# Altium footprint library Jack_footprint.PcbLib: 1 footprints
Each footprint in its own frame and in the unit in brackets; x right, y up, seen from the top. Pads: shape width x height; smd on the part's side, far side on the other; paste and mask are expansions set on the pad; w line width, h text height; cw(c..) or ccw(c..) is an arc to the next point about the centre after c.
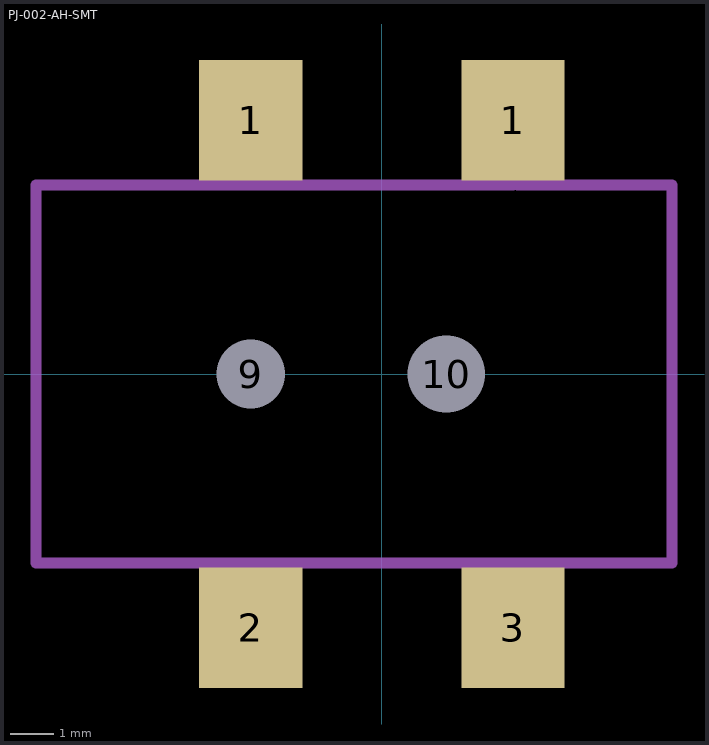
[diagram p0: the footprint, top view; thin cyan lines are the x and y axes]

## PJ-002-AH-SMT [mm]
pads (6):
  rect 2.4x2.8 smd: 1(-3.048,5.9) 1(3.048,5.9) 2(-3.048,-5.9) 3(3.048,-5.9)
  round 1.4 hole 1.6 unplated: 9(-3.048,0)
  round 1.524 hole 1.8 unplated: 10(1.5,0)
Mechanical 13:
  lines w0.254: -8.048,0.2 -8.048,4.4 ; 3.052,4.4 -3.048,4.4 -8.048,4.4 ; 3.152,4.4 6.752,4.4 6.752,-4.4 -8.048,-4.4 -8.048,4.4
3D body "PJ-002AH-SMT.stp": height 11, standoff -1.2, extent -8.048,-6.3 6.752,6.3